# Altium integrated library MSP430_GPRS V1.0.IntLib: 24 symbols
Pins are listed as number, name and electrical type; pins without a type are passive.

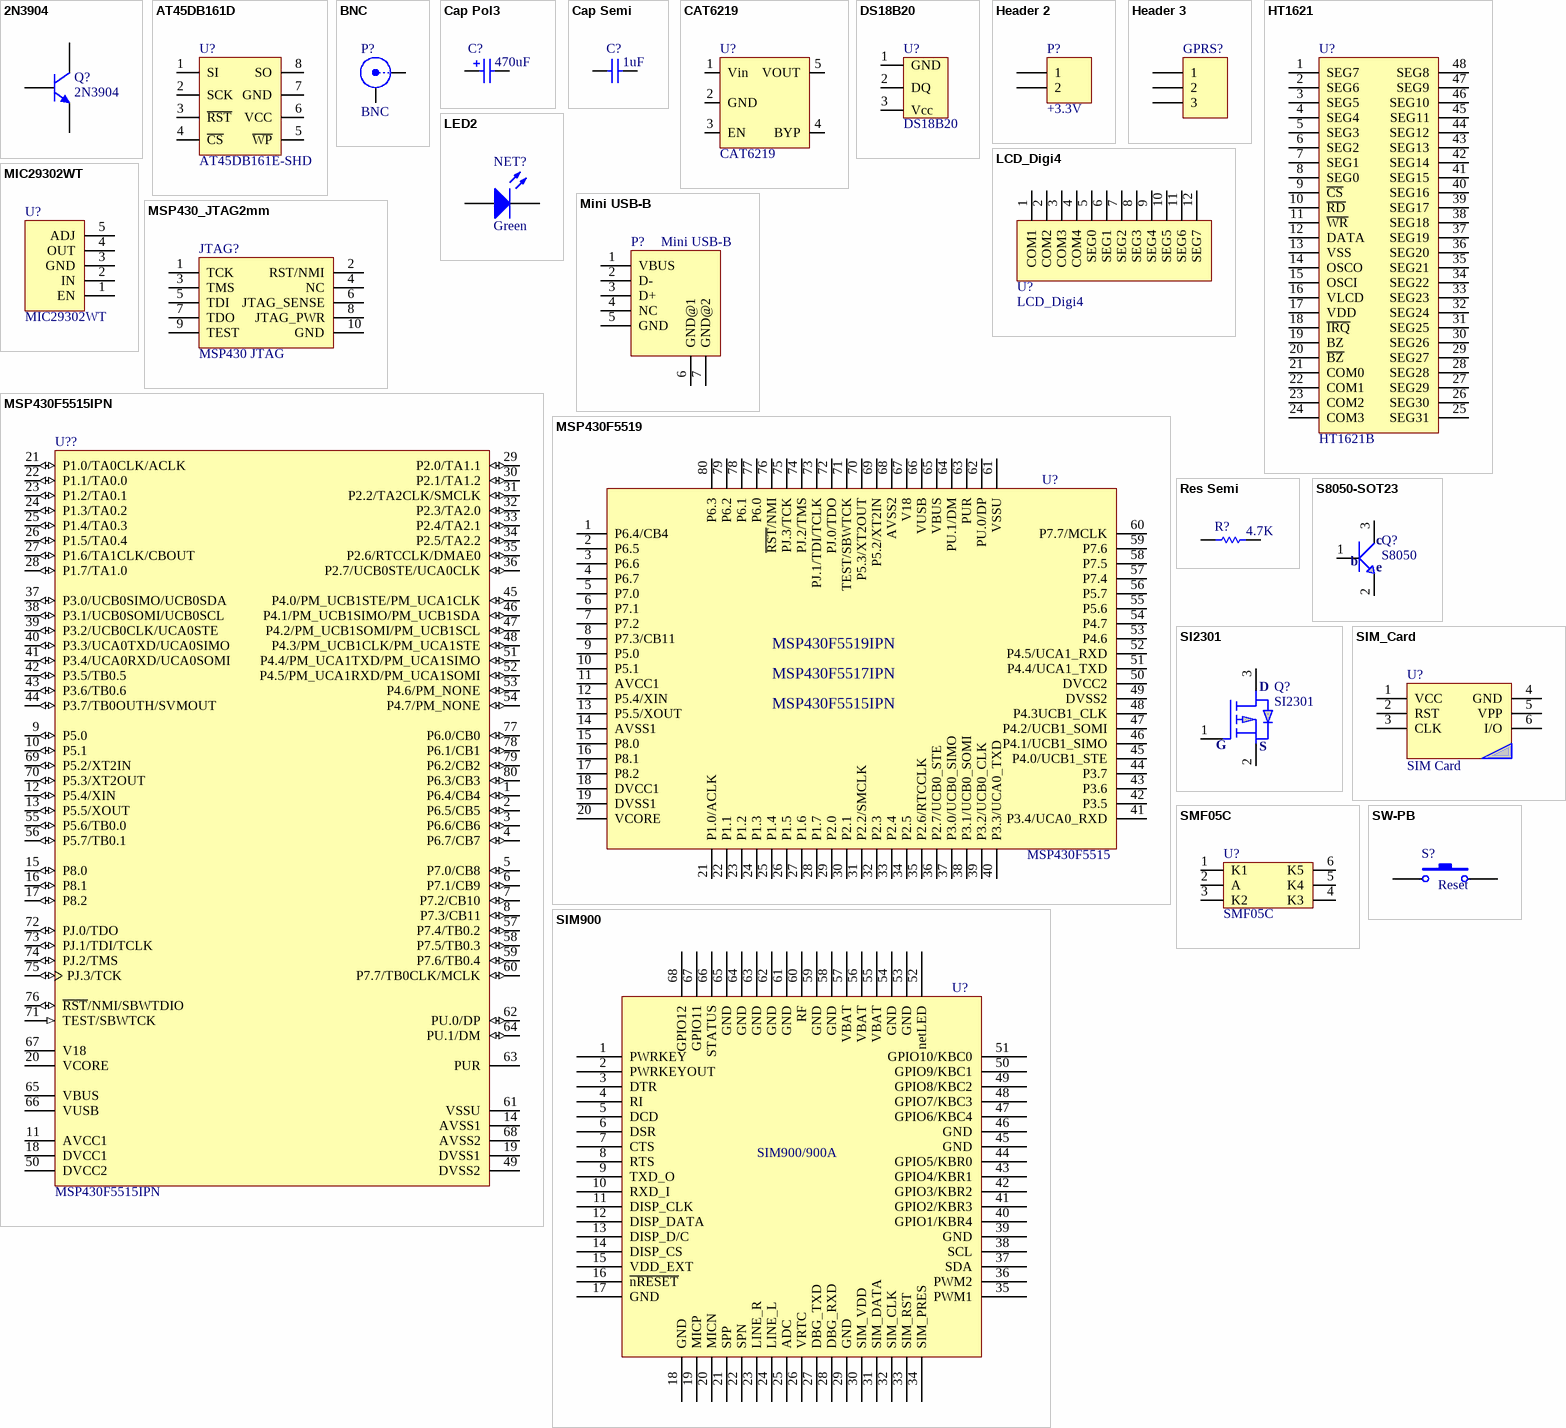
[diagram p0: symbols 2N3904 to SW-PB]

## 2N3904
designator Q?
NPN General Purpose Amplifier; Published: 8-Jun-2000; LatestRevisionDate: 15-Jan-2003; LatestRevisionNote: PCB Footprint 'BCY-W3/D4.7' replaced; DatasheetVersion: 1997; PackageVersion: Sep-1998; PackageReference: TO-92A; Publisher: Altium Limited; PackageDescription: TO, Flat Index; 3 In-Line, Axial Leads; Body Dia. 4.5mm; Leads 0.51 x 0.48 mm (max); ComponentLink1Description: Manufacturer Link; ComponentLink1URL: http://www.fairchildsemi.com/; ComponentLink2Description: Datasheet; ComponentLink2URL: http://www.fairchildsemi.com/ds/2N%2F2N3904.pdf
footprint TO-92A (TO, Flat Index; 3 In-Line, Axial Leads; Body Dia. 4.5mm; Leads 0.51 x 0.48 mm (max))
simulation model 2N3904 (NPN)
signal-integrity model 2N3904
pins: 1 E, 2 B, 3 C

## AT45DB161D
designator U?, comment AT45DB161E-SHD
16MBits Dataflash; Compay: ATMEL
footprint SOIC8-AT45DB-S2
pins: 1 SI, 2 SCK, 3 ~{RST}, 4 ~{CS}, 5 ~{WP}, 6 VCC, 7 GND, 8 SO

## BNC
designator P?
BNC Elbow Connector; LatestRevisionDate: 17-Jul-2002; LatestRevisionNote: Re-released for DXP Platform.; Publisher: Altium Limited
footprint BNC_RA CON (Connector; BNC Elbow)
signal-integrity model Connector
pins: 1 X, 2 Y

## Cap Pol3
designator C?  value 470uF  (hidden comment: Cap Pol3)
Polarized Capacitor (Surface Mount); Published: 8-Jun-2000; LatestRevisionDate: 17-Jul-2002; LatestRevisionNote: Re-released for DXP Platform.; PackageReference: C0805; Publisher: Altium Limited
simulation model CAP (Capacitor)
signal-integrity model Cap Pol
footprint CCT-7343-31
pins: 1, 2
1 alternate drawing of the same symbol

## Cap Semi
designator C?  value 1uF  (hidden comment: Cap Semi)
Capacitor (Semiconductor SIM Model); Published: 8-Jun-2000; LatestRevisionDate: 17-Jul-2002; LatestRevisionNote: Re-released for DXP Platform.; PackageReference: C1206; Publisher: Altium Limited
simulation model CAP (Semiconductor Capacitor)
signal-integrity model Cap Semi
footprint CC1608-0603 (Chip Capacitor; Body 1.6 x 0.8)
pins: 1, 2

## CAT6219
designator U?
2.3-5.5V input, 3.3V output, 500mA, 300mV dropout
footprint SOT23-5-MAX8867 (SOT23-5 regular, Top Mark=ACBD)
pins: 1 Vin, 2 GND, 3 EN, 4 BYP, 5 VOUT

## DS18B20
designator U?
1-Wire Digital Thermometer
footprint TO-92 (TO-92 for diode, DS18B20 and so on)
pins: 1 GND, 2 DQ, 3 Vcc

## Header 2
designator P?, comment +3.3V
Header, 2-Pin; LatestRevisionDate: 17-Jul-2002; LatestRevisionNote: Re-released for DXP Platform.; Publisher: Altium Limited
footprint HDR1X2 (Connector; Header; 2 Position)
signal-integrity model Connector
pins: 1, 2

## Header 3
designator GPRS?  (value not drawn)
Header, 3-Pin; LatestRevisionDate: 17-Jul-2002; LatestRevisionNote: Re-released for DXP Platform.; Publisher: Altium Limited
footprint HDR1X3 (Connector; Header; 3 Position)
signal-integrity model Connector
pins: 1, 2, 3

## HT1621
designator U?, comment HT1621B
LCD driver
footprint SOP48-HT1621B (LCD Driver)
pins: 1 SEG7, 2 SEG6, 3 SEG5, 4 SEG4, 5 SEG3, 6 SEG2, 7 SEG1, 8 SEG0, 9 ~{CS}, 10 ~{RD}, 11 ~{WR}, 12 DATA, 13 VSS, 14 OSCO, 15 OSCI, 16 VLCD, 17 VDD, 18 ~{IRQ}, 19 BZ, 20 ~{BZ}, 21 COM0, 22 COM1, 23 COM2, 24 COM3, 25 SEG31, 26 SEG30, 27 SEG29, 28 SEG28, 29 SEG27, 30 SEG26, 31 SEG25, 32 SEG24, 33 SEG23, 34 SEG22, 35 SEG21, 36 SEG20, 37 SEG19, 38 SEG18, 39 SEG17, 40 SEG16, 41 SEG15, 42 SEG14, 43 SEG13, 44 SEG12, 45 SEG11, 46 SEG10, 47 SEG9, 48 SEG8

## LCD_Digi4
designator U?
4 digital LCD for temperture
footprint SIP12_LCD
pins: 1 COM1, 2 COM2, 3 COM3, 4 COM4, 5 SEG0, 6 SEG1, 7 SEG2, 8 SEG3, 9 SEG4, 10 SEG5, 11 SEG6, 12 SEG7

## LED2
designator NET?, comment Green
Typical RED, GREEN, YELLOW, AMBER GaAs LED; Published: 8-Jun-2000; LatestRevisionDate: 17-Jul-2002; LatestRevisionNote: Re-released for DXP Platform.; Publisher: Altium Limited
footprint CC1608-0603 (Chip Capacitor; Body 1.6 x 0.8)
simulation model LED2 (Diode)
pins: 1 A, 2 K

## MIC29302WT
designator U?
2A,  adjustable LDO
footprint TO263_MIC29302
pins: 1 EN, 2 IN, 3 GND, 4 OUT, 5 ADJ

## Mini USB-B
designator P?
footprint MiniUSB-SOP
pins: 1 VBUS, 2 D-, 3 D+, 4 NC, 5 GND, 6 GND@1, 7 GND@2

## MSP430_JTAG2mm
designator JTAG?, comment MSP430 JTAG
footprint Header10_2mm
pins: 1 TCK, 2 RST/NMI, 3 TMS, 4 NC, 5 TDI, 6 JTAG_SENSE, 7 TDO, 8 JTAG_PWR, 9 TEST, 10 GND

## MSP430F5515IPN
designator U??
25 MHz Mixed Signal Microcontroller with 64 KB Flash, 4096 B SRAM and 63 GPIOs, -40 to 85 degC, 80-pin QFP (PN), Green (RoHS & no Sb/Br); Manufacturer: Texas Instruments; Brown Out Reset: Yes; DMA: 3; Flash(KB): 64; Frequency(MHz): 25; GPIO: 63; Multiplier: 32x32; SRAM(B): 4096; SubFamily: 5 Series; Timers - 16-bit: 4; USB: 1; USCI_A (UART/LIN/IrDA/SPI): 2; DatasheetVersion: SLAS590I; PackageReference: PN80; PackageDescription: 80-Pin Plastic Quad Flat Pack, Body 12 x 12 mm, Pitch 0.5 mm; Supplier 1: Digi-Key; Supplier Part Number 1: 296-27376-2-ND; Supplier 2: Digi-Key; Supplier Part Number 2: 296-27376-1-ND; Supplier 3: Digi-Key; Supplier Part Number 3: 296-27376-6-ND; Supplier 4: Newark; Supplier Part Number 4: 74R6462; Supplier 5: Mouser; Supplier Part Number 5: 595-MSP430F5514IZQER; Comparators: Yes; Eco-Plan: Green (RoHS & no Sb/Br); Real-Time Clock: Yes; SVS: Yes; USCI_B (I2C & SPI): 2; Watchdog: Yes; Mounting Technology: Surface Mount; Code_JEDEC: MS-018; PartNumber: MSP430F5515IPN; ComponentLink1Description: Manufacturer URL; ComponentLink1URL: http://www.ti.com/; ComponentLink2Description: Datasheet; ComponentLink2URL: http://www.ti.com/general/docs/lit/getliterature.tsp?genericPartNumber=MSP430F5515&fileType=pdf; ComponentLink3Description: Package Specification; ComponentLink3URL: http://www.ti.com/lit/ml/mtqf010a/mtqf010a.pdf
footprint TI-PN80_N (QFP, 80-Leads, Body 12x12mm, Pitch 0.5mm, IPC Medium Density)
pins: 1 P6.4/CB4 (io), 2 P6.5/CB5 (io), 3 P6.6/CB6 (io), 4 P6.7/CB7 (io), 5 P7.0/CB8 (io), 6 P7.1/CB9 (io), 7 P7.2/CB10 (io), 8 P7.3/CB11 (io), 9 P5.0 (io) "General-purpose digital I/O", 10 P5.1 (io) "General-purpose digital I/O", 11 AVCC1 (power) "Analog power supply", 12 P5.4/XIN (io), 13 P5.5/XOUT (io), 14 AVSS1 (power) "Analog ground supply", 15 P8.0 (io) "General-purpose digital I/O", 16 P8.1 (io) "General-purpose digital I/O", 17 P8.2 (io) "General-purpose digital I/O", 18 DVCC1 (power) "Digital power supply", 19 DVSS1 (power) "Digital ground supply", 20 VCORE "Regulated core power supply output (internal use only, no external current loading)", 21 P1.0/TA0CLK/ACLK (io), 22 P1.1/TA0.0 (io), 23 P1.2/TA0.1 (io), 24 P1.3/TA0.2 (io), 25 P1.4/TA0.3 (io), 26 P1.5/TA0.4 (io), 27 P1.6/TA1CLK/CBOUT (io), 28 P1.7/TA1.0 (io), 29 P2.0/TA1.1 (io), 30 P2.1/TA1.2 (io), 31 P2.2/TA2CLK/SMCLK (io), 32 P2.3/TA2.0 (io), 33 P2.4/TA2.1 (io), 34 P2.5/TA2.2 (io), 35 P2.6/RTCCLK/DMAE0 (io), 36 P2.7/UCB0STE/UCA0CLK (io), 37 P3.0/UCB0SIMO/UCB0SDA (io), 38 P3.1/UCB0SOMI/UCB0SCL (io), 39 P3.2/UCB0CLK/UCA0STE (io), 40 P3.3/UCA0TXD/UCA0SIMO (io), 41 P3.4/UCA0RXD/UCA0SOMI (io), 42 P3.5/TB0.5 (io), 43 P3.6/TB0.6 (io), 44 P3.7/TB0OUTH/SVMOUT (io), 45 P4.0/PM_UCB1STE/PM_UCA1CLK (io), 46 P4.1/PM_UCB1SIMO/PM_UCB1SDA (io), 47 P4.2/PM_UCB1SOMI/PM_UCB1SCL (io), 48 P4.3/PM_UCB1CLK/PM_UCA1STE (io), 49 DVSS2 (power) "Digital ground supply", 50 DVCC2 (power) "Digital power supply", 51 P4.4/PM_UCA1TXD/PM_UCA1SIMO (io), 52 P4.5/PM_UCA1RXD/PM_UCA1SOMI (io), 53 P4.6/PM_NONE (io), 54 P4.7/PM_NONE (io), 55 P5.6/TB0.0 (io), 56 P5.7/TB0.1 (io), 57 P7.4/TB0.2 (io), 58 P7.5/TB0.3 (io), 59 P7.6/TB0.4 (io), 60 P7.7/TB0CLK/MCLK (io), 61 VSSU (power) "USB PHY ground supply", 62 PU.0/DP (io), 63 PUR "USB pullup resistor pin (open drain). The voltage level at the PUR pin is used to invoke the default USB BSL. Recommended 1-Mohm resistor to ground.", 64 PU.1/DM (io), 65 VBUS (power) "USB LDO input (connect to USB power source)", 66 VUSB (power) "USB LDO output", 67 V18 "USB regulated power (internal use only, no external current loading)", 68 AVSS2 (power) "Analog ground supply", 69 P5.2/XT2IN (io), 70 P5.3/XT2OUT (io), 71 TEST/SBWTCK (in), 72 PJ.0/TDO (io), 73 PJ.1/TDI/TCLK (io), 74 PJ.2/TMS (io), 75 PJ.3/TCK (io), 76 ~{RST}/NMI/SBWTDIO (io), 77 P6.0/CB0 (io), 78 P6.1/CB1 (io), 79 P6.2/CB2 (io), 80 P6.3/CB3 (io)

## MSP430F5519
designator U?, comment MSP430F5515
MSP430F5519/17/15
footprint PN80-MSP430F5519 (PN80 fro MSP430F5519/17/15, F5529/27/25/21)
pins: 1 P6.4/CB4, 2 P6.5, 3 P6.6, 4 P6.7, 5 P7.0, 6 P7.1, 7 P7.2, 8 P7.3/CB11, 9 P5.0, 10 P5.1, 11 AVCC1, 12 P5.4/XIN, 13 P5.5/XOUT, 14 AVSS1, 15 P8.0, 16 P8.1, 17 P8.2, 18 DVCC1, 19 DVSS1, 20 VCORE, 21 P1.0/ACLK, 22 P1.1, 23 P1.2, 24 P1.3, 25 P1.4, 26 P1.5, 27 P1.6, 28 P1.7, 29 P2.0, 30 P2.1, 31 P2.2/SMCLK, 32 P2.3, 33 P2.4, 34 P2.5, 35 P2.6/RTCCLK, 36 P2.7/UCB0_STE, 37 P3.0/UCB0_SIMO, 38 P3.1/UCB0_SOMI, 39 P3.2/UCB0_CLK, 40 P3.3/UCA0_TXD, 41 P3.4/UCA0_RXD, 42 P3.5, 43 P3.6, 44 P3.7, 45 P4.0/UCB1_STE, 46 P4.1/UCB1_SIMO, 47 P4.2/UCB1_SOMI, 48 P4.3UCB1_CLK, 49 DVSS2, 50 DVCC2, 51 P4.4/UCA1_TXD, 52 P4.5/UCA1_RXD, 53 P4.6, 54 P4.7, 55 P5.6, 56 P5.7, 57 P7.4, 58 P7.5, 59 P7.6, 60 P7.7/MCLK, 61 VSSU, 62 PU.0/DP, 63 PUR, 64 PU.1/DM, 65 VBUS, 66 VUSB, 67 V18, 68 AVSS2, 69 P5.2/XT2IN, 70 P5.3/XT2OUT, 71 TEST/SBWTCK, 72 PJ.0/TDO, 73 PJ.1/TDI/TCLK, 74 PJ.2/TMS, 75 PJ.3/TCK, 76 ~{RST}/NMI, 77 P6.0, 78 P6.1, 79 P6.2, 80 P6.3
text: MSP430F5519IPN; MSP430F5517IPN; MSP430F5515IPN

## Res Semi
designator R?  value 4.7K  (hidden comment: Res Semi)
Semiconductor Resistor; Published: 8-Jun-2000; LatestRevisionDate: 17-Jul-2002; LatestRevisionNote: Re-released for DXP Platform.; Publisher: Altium Limited
footprint AXIAL-0.5 (Semiconductor Resistor; 2 Leads)
footprint CR1005-0402 (Chip Resistor; Body 1.1 x 0.5 mm (LxW typ))
footprint CR1608-0603 (Chip Resistor; Body 1.6 x 0.8 mm (LxW typ))
footprint CR2012-0805 (Chip Resistor; Body 2.0 x 1.3 mm (LxW typ))
footprint CR3216-1206 (Chip Resistor; Body 3.2 x 1.6 mm (LxW typ))
simulation model RES (Semiconductor Resistor)
signal-integrity model Res Semi
pins: 1, 2

## S8050-SOT23
designator Q?, comment S8050
NPN transistor, SOT-23  package
footprint SI2301-SOT123 (SOT-23)
pins: 1 Base, 2 Emit, 3 Collect
text: c; b; e

## SI2301
designator Q?
P-channel MOSFET
footprint SI2301-SOT123 (SOT-23)
pins: 1 G, 2 S, 3 D

## SIM900
designator U?, comment SIM900/900A
GPRS Module
footprint SIM900
pins: 1 PWRKEY, 2 PWRKEYOUT, 3 DTR, 4 RI, 5 DCD, 6 DSR, 7 CTS, 8 RTS, 9 TXD_O, 10 RXD_I, 11 DISP_CLK, 12 DISP_DATA, 13 DISP_D/C, 14 DISP_CS, 15 VDD_EXT, 16 ~{nRESET}, 17 GND, 18 GND, 19 MICP, 20 MICN, 21 SPP, 22 SPN, 23 LINE_R, 24 LINE_L, 25 ADC, 26 VRTC, 27 DBG_TXD, 28 DBG_RXD, 29 GND, 30 SIM_VDD, 31 SIM_DATA, 32 SIM_CLK, 33 SIM_RST, 34 SIM_PRES, 35 PWM1, 36 PWM2, 37 SDA, 38 SCL, 39 GND, 40 GPIO1/KBR4, 41 GPIO2/KBR3, 42 GPIO3/KBR2, 43 GPIO4/KBR1, 44 GPIO5/KBR0, 45 GND, 46 GND, 47 GPIO6/KBC4, 48 GPIO7/KBC3, 49 GPIO8/KBC2, 50 GPIO9/KBC1, 51 GPIO10/KBC0, 52 netLED, 53 GND, 54 GND, 55 VBAT, 56 VBAT, 57 VBAT, 58 GND, 59 GND, 60 RF, 61 GND, 62 GND, 63 GND, 64 GND, 65 GND, 66 STATUS, 67 GPIO11, 68 GPIO12

## SIM_Card
designator U?, comment SIM Card
footprint MicoSIM_Cover
pins: 1 VCC, 2 RST, 3 CLK, 4 GND, 5 VPP, 6 I/O

## SMF05C
designator U?
TVS Diode Array for ESD protection
footprint SC70-6L-SMF05C (SC70-6L for SMF05C)
pins: 1 K1, 2 A, 3 K2, 4 K3, 5 K4, 6 K5

## SW-PB
designator S?, comment Reset
Switch; Published: 24-Mar-1999; LatestRevisionDate: 17-Jul-2002; LatestRevisionNote: Re-released for DXP Platform.; Publisher: Altium Limited
footprint KEY_SOT
pins: 1, 2